# Altium footprint library AO4307A.PcbLib: 2 footprints
Each footprint in its own frame and in the unit in brackets; x right, y up, seen from the top. Pads: shape width x height; smd on the part's side, far side on the other; paste and mask are expansions set on the pad; w line width, h text height; cw(c..) or ccw(c..) is an arc to the next point about the centre after c.
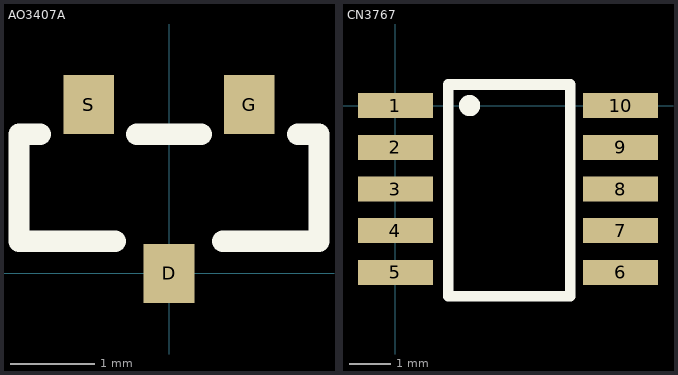
[diagram p0: the footprints below, top view; thin cyan lines are the x and y axes]

## AO3407A [mm]
pads (3):
  rect 0.6x0.7 smd: D(0,0) G(0.95,2) S(-0.95,2)
Top Overlay:
  lines w0.254: -1.524,1.651 -1.778,1.651 -1.778,0.381 -0.635,0.381 ; -0.381,1.651 0.381,1.651 ; 0.635,0.381 1.778,0.381 1.778,1.651 1.524,1.651

## CN3767 [mm]
pads (10):
  rect 1.8x0.6 smd: 1(0,0) 2(0,-1) 3(0,-2) 4(0,-3) 5(0,-4) 6(5.4,-4) 7(5.4,-3) 8(5.4,-2) 9(5.4,-1) 10(5.4,0)
Top Overlay:
  circle w0.254: c1.778,0 r0.127
  lines w0.254: 1.27,-4.572 1.27,0.508 4.191,0.508 4.191,-4.572 1.27,-4.572